# EAGLE library part ECC83 (library tubes)
ECC83: Dual triode tube (Siemens) Heater 6.3V/150mA, 100V Ua, 1W Qmax
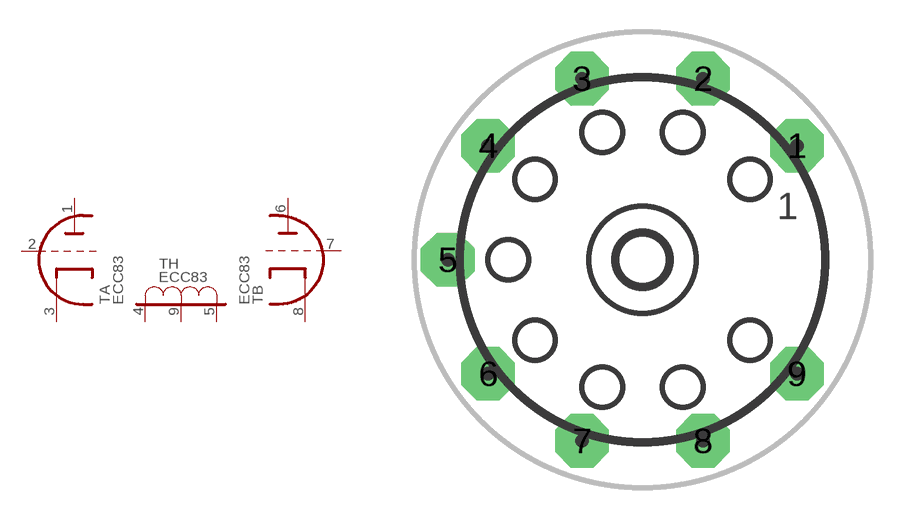
[diagram p0: symbol with the pads of NOVAL; footprint NOVAL]

Designator prefix T; gates A=ECC83A B=ECC83B H=ECC83C

## ECC83  [NOVAL]
1  A:A1
2  A:G1  in
3  A:C1
4  H:H1
5  H:H2
6  B:A1
7  B:G1  in
8  B:C1
9  H:H

## Footprint NOVAL (pad centres in mm)
Vacuum tube socket, 9 pins
drill 1.295 pad 2.54 octagon: 1 0,0; 2 -4.445,3.175; 3 -10.16,3.175; 4 -14.605,0; 5 -16.51,-5.397; 6 -14.605,-10.795; 7 -10.16,-13.97; 8 -4.445,-13.97; 9 0,-10.795